# EAGLE library part OPAMP8P (library Zoli2_2015-02-22)
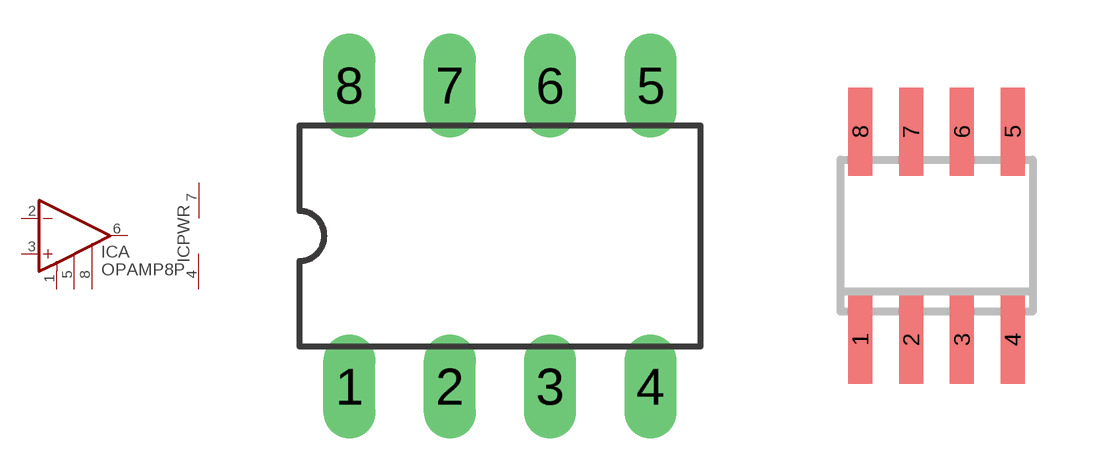
[diagram p47: symbol with the pads of DIL08; footprints DIL08, SO8]

Designator prefix IC; gates A=OPA8PIN PWR=+-

## OPAMP8PDIP8  [DIL08]
1  A:PIN1  pas
2  A:-IN  in
3  A:+IN  in
4  PWR:V-  pwr
5  A:PIN5  pas
6  A:OUT  out
7  PWR:V+  pwr
8  A:PIN8  pas

## OPAMP8PSO8  [SO8]
Pads as for DIL08

## Footprint DIL08 (pad centres in mm)
Dual In Line 8
drill 0.813 long: 1 -3.81,-3.81; 2 -1.27,-3.81; 3 1.27,-3.81; 4 3.81,-3.81; 5 3.81,3.81; 6 1.27,3.81; 7 -1.27,3.81; 8 -3.81,3.81

## Footprint SO8 (pad centres in mm)
smd 0.6 x 2.2: 1 -1.905,-2.6; 2 -0.635,-2.6; 3 0.635,-2.6; 4 1.905,-2.6; 5 1.905,2.6; 6 0.635,2.6; 7 -0.635,2.6; 8 -1.905,2.6